# Altium footprint library Capacitors THD.PcbLib: 270 footprints (part 16 of 17)
Each footprint in its own frame and in the unit in brackets; x right, y up, seen from the top. Pads: shape width x height; smd on the part's side, far side on the other; paste and mask are expansions set on the pad; w line width, h text height; cw(c..) or ccw(c..) is an arc to the next point about the centre after c.
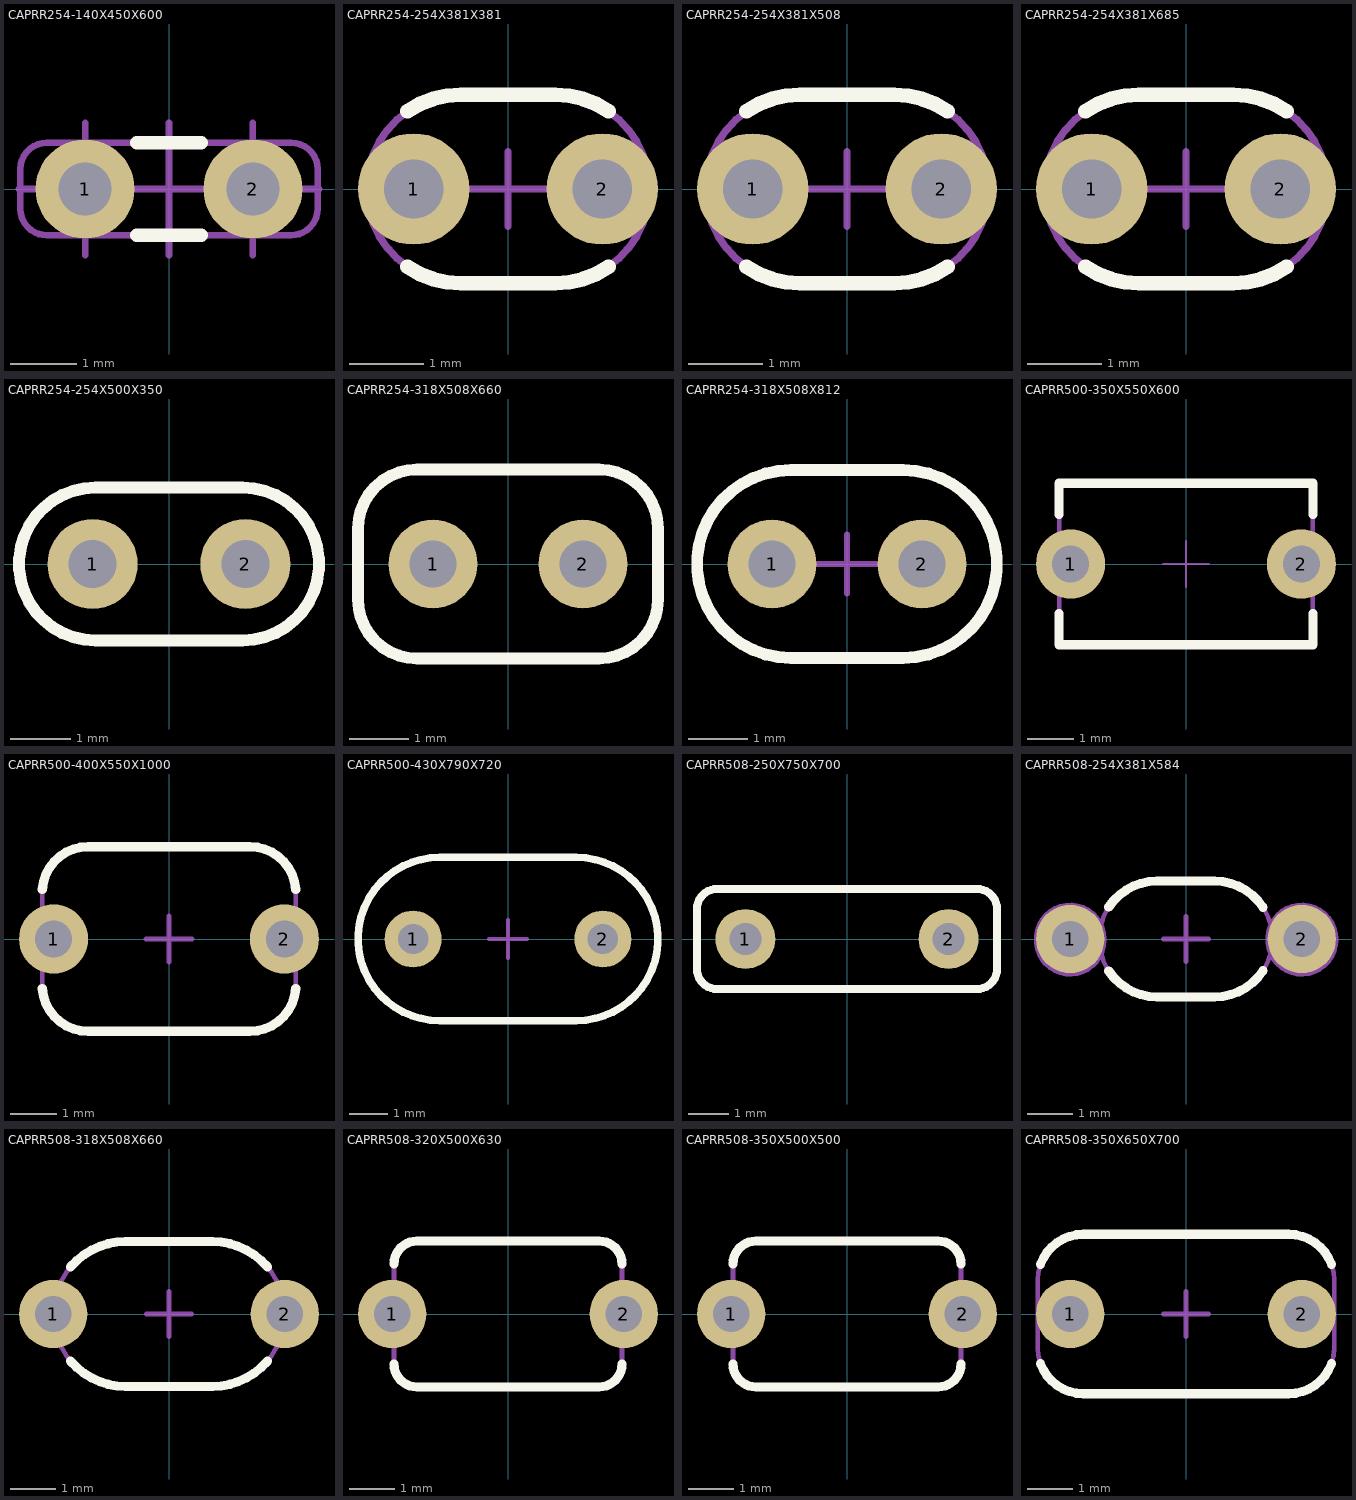
[diagram p15: the footprints below, top view; thin cyan lines are the x and y axes]

## CAPRR254-140X450X600 [mm] "Capacitor Radial, Pin spacing 2.54mm - Body With 1.4mm X Body Length 4.5mm X Body Height 6mm"
height 6
pads (2):
  round 1.5 hole 0.8: 1(-1.27,0) 2(1.27,0)
Top Overlay:
  lines w0.2: -0.487,-0.7 0.487,-0.7 ; -0.487,0.7 0.487,0.7
Mechanical 8:
  lines w0.1: -2.27,0 -1.27,0 ; -1.27,-1 -1.27,0 ; -1.27,1 -1.27,0 ; -1,0 0,0 ; 0,-1 0,0 ; 0,1 0,0 ; 1,0 0,0 ; 1.27,-1 1.27,0 ; 1.27,1 1.27,0 ; 2.27,0 1.27,0
Mechanical 14:
  lines w0.1: -2.25,-0.3 ccw(c-1.85,-0.3) -1.85,-0.7 1.85,-0.7 ccw(c1.85,-0.3) 2.25,-0.3 2.25,0.3 ccw(c1.85,0.3) 1.85,0.7 -1.85,0.7 ccw(c-1.85,0.3) -2.25,0.3 -2.25,-0.3
3D body "CAPRR254-140X450X600.stp": height 6, standoff -3.8, extent -2.25,-0.7 2.25,0.7

## CAPRR254-254X381X381 [mm] "Capacitor Radial Rounded, Pin spacing 2.54mm - Body With 2.54mm X Body Length 3.81mm X Body Height 3.81mm"
height 3.81
pads (2):
  round 1.5 hole 0.8: 1(-1.27,0) 2(1.27,0)
Top Overlay:
  lines w0.2: -1.354,-1.047 ccw(c-0.635,0) -0.635,-1.27 0.635,-1.27 ccw(c0.635,0) 1.354,-1.047 ; -1.354,1.047 cw(c-0.635,0) -0.635,1.27 0.635,1.27 cw(c0.635,0) 1.354,1.047
Mechanical 8:
  lines w0.1: -1.77,0 -1.27,0 ; -1.27,-0.5 -1.27,0 ; -1.27,0.5 -1.27,0 ; -0.77,0 -1.27,0 ; -0.5,0 0,0 ; 0,-0.5 0,0 ; 0,0.5 0,0 ; 0.5,0 0,0 ; 0.77,0 1.27,0 ; 1.27,-0.5 1.27,0 ; 1.27,0.5 1.27,0 ; 1.77,0 1.27,0
Mechanical 14:
  lines w0.1: -0.635,-1.27 cw(c-0.635,0) -0.635,1.27 0.635,1.27 cw(c0.635,0) 0.635,-1.27 -0.635,-1.27
3D body "CAPRR254-254X381X381.stp": height 3.81, standoff -5.27, extent -1.905,-1.27 1.905,1.27

## CAPRR254-254X381X508 [mm] "Capacitor Radial Rounded, Pin spacing 2.54mm - Body With 2.54mm X Body Length 3.81mm X Body Height 5.08mm"
height 5.08
pads (2):
  round 1.5 hole 0.8: 1(-1.27,0) 2(1.27,0)
Top Overlay:
  lines w0.2: -1.354,-1.047 ccw(c-0.635,0) -0.635,-1.27 0.635,-1.27 ccw(c0.635,0) 1.354,-1.047 ; -1.354,1.047 cw(c-0.635,0) -0.635,1.27 0.635,1.27 cw(c0.635,0) 1.354,1.047
Mechanical 8:
  lines w0.1: -1.77,0 -1.27,0 ; -1.27,-0.5 -1.27,0 ; -1.27,0.5 -1.27,0 ; -0.77,0 -1.27,0 ; -0.5,0 0,0 ; 0,-0.5 0,0 ; 0,0.5 0,0 ; 0.5,0 0,0 ; 0.77,0 1.27,0 ; 1.27,-0.5 1.27,0 ; 1.27,0.5 1.27,0 ; 1.77,0 1.27,0
Mechanical 14:
  lines w0.1: -0.635,-1.27 cw(c-0.635,0) -0.635,1.27 0.635,1.27 cw(c0.635,0) 0.635,-1.27 -0.635,-1.27
3D body "CAPRR254-254X381X508.stp": height 5.08, standoff -3.1, extent -1.905,-1.27 1.905,1.27

## CAPRR254-254X381X685 [mm] "Capacitor Radial Rounded (KEMET C315), Pin spacing 2.54mm - Body With 2.54mm X Body Length 3.81mm X Body Height 6.85mm"
height 6.85
pads (2):
  round 1.5 hole 0.8: 1(-1.27,0) 2(1.27,0)
Top Overlay:
  lines w0.2: -1.354,-1.047 ccw(c-0.635,0) -0.635,-1.27 0.635,-1.27 ccw(c0.635,0) 1.354,-1.047 ; -1.354,1.047 cw(c-0.635,0) -0.635,1.27 0.635,1.27 cw(c0.635,0) 1.354,1.047
Mechanical 8:
  lines w0.1: -1.77,0 -1.27,0 ; -1.27,-0.5 -1.27,0 ; -1.27,0.5 -1.27,0 ; -0.77,0 -1.27,0 ; -0.5,0 0,0 ; 0,-0.5 0,0 ; 0,0.5 0,0 ; 0.5,0 0,0 ; 0.77,0 1.27,0 ; 1.27,-0.5 1.27,0 ; 1.27,0.5 1.27,0 ; 1.77,0 1.27,0
Mechanical 14:
  lines w0.1: -0.635,-1.27 cw(c-0.635,0) -0.635,1.27 0.635,1.27 cw(c0.635,0) 0.635,-1.27 -0.635,-1.27
3D body "CAPRR254-254X381X685.stp": height 6.85, standoff -3.1, extent -1.905,-1.27 1.905,1.27

## CAPRR254-254X500X350 [mm] "Capacitor Radial, Pin spacing 2.54mm - Body With 2.54mm X Body Length 5.00mm X Body Height 3.5mm"
height 3.5
pads (2):
  round 1.5 hole 0.8: 1(-1.27,0) 2(1.27,0)
Top Overlay:
  lines w0.2: -1.225,-1.27 cw(c-1.225,0) -1.225,1.27 1.225,1.27 cw(c1.225,0) 1.225,-1.27 -1.225,-1.27
Mechanical 14:
  lines w0.1: -1.225,-1.27 cw(c-1.225,0) -1.225,1.27 1.225,1.27 cw(c1.225,0) 1.225,-1.27 -1.225,-1.27
3D body "CAPRR254-254X500X350.stp": height 5, standoff -3.6, extent -2.5,-1.27 2.5,1.27

## CAPRR254-318X508X660 [mm] "Capacitor Radial Rounded, Pin spacing 2.54mm - Body With 3.18mm X Body Length 5.08mm X Body Height 6.6mm"
height 6.6
pads (2):
  round 1.5 hole 0.8: 1(-1.27,0) 2(1.27,0)
Top Overlay:
  lines w0.2: -2.54,-0.6 ccw(c-1.54,-0.6) -1.54,-1.6 1.54,-1.6 ccw(c1.54,-0.6) 2.54,-0.6 2.54,0.6 ccw(c1.54,0.6) 1.54,1.6 -1.54,1.6 ccw(c-1.54,0.6) -2.54,0.6 -2.54,-0.6
Mechanical 13:
  lines w0.1: -2.54,-0.6 ccw(c-1.54,-0.6) -1.54,-1.6 1.54,-1.6 ccw(c1.54,-0.6) 2.54,-0.6 2.54,0.6 ccw(c1.54,0.6) 1.54,1.6 -1.54,1.6 ccw(c-1.54,0.6) -2.54,0.6 -2.54,-0.6
Mechanical 14:
  lines w0.1: -2.54,-0.6 ccw(c-1.54,-0.6) -1.54,-1.6 1.54,-1.6 ccw(c1.54,-0.6) 2.54,-0.6 2.54,0.6 ccw(c1.54,0.6) 1.54,1.6 -1.54,1.6 ccw(c-1.54,0.6) -2.54,0.6 -2.54,-0.6
3D body "CAPRR254-318X508X660.stp": height 6.6, standoff -3.6, extent -2.54,-1.59 2.54,1.594

## CAPRR254-318X508X812 [mm] "Capacitor Radial Rounded, (KEMET C320) Pin spacing 2.54mm - Body With 3.18mm X Body Length 5.08mm X Body Height 8.12mm (6.6+1.52)"
height 8.12
pads (2):
  round 1.5 hole 0.8: 1(-1.27,0) 2(1.27,0)
Top Overlay:
  lines w0.2: -0.95,-1.59 cw(c-0.95,0) -0.95,1.59 0.95,1.59 cw(c0.95,0) 0.95,-1.59 -0.95,-1.59
Mechanical 8:
  lines w0.1: -1.27,0 -1.77,0 -1.27,0 ; -1.27,0 -0.77,0 -1.27,0 ; -1.27,0 -1.27,-0.5 -1.27,0 ; -1.27,0 -1.27,0.5 -1.27,0 ; 0,0 0,0.5 0,0 ; 0,0 0,-0.5 0,0 ; 0,0 0.5,0 0,0 ; 0,0 -0.5,0 0,0 ; 1.27,0 0.77,0 1.27,0 ; 1.27,0 1.77,0 1.27,0 ; 1.27,0 1.27,-0.5 1.27,0 ; 1.27,0 1.27,0.5 1.27,0
Mechanical 14:
  lines w0.1: -0.95,-1.59 cw(c-0.95,0) -0.95,1.59 0.95,1.59 cw(c0.95,0) 0.95,-1.59 -0.95,-1.59
3D body "CAPRR254-318X508X812.stp": height 8.12, standoff -3.2, extent -2.54,-1.59 2.54,1.59

## CAPRR500-350X550X600 [mm] "Capacitor Radial, Pin spacing 2mm - Body With 3.5mm X Body Length 5.5mm X Body Height 6mm"
height 6
pads (2):
  round 1.5 hole 0.8: 1(-2.5,0) 2(2.5,0)
Top Overlay:
  lines w0.2: -2.75,-1.071 -2.75,-1.75 2.75,-1.75 2.75,-1.071 ; -2.75,1.071 -2.75,1.75 2.75,1.75 2.75,1.071
Mechanical 8:
  lines w0.05: -3,0 -2.5,0 ; -2.5,-0.5 -2.5,0 ; -2.5,0.5 -2.5,0 ; -2,0 -2.5,0 ; -0.5,0 0,0 ; 0,-0.5 0,0 ; 0,0.5 0,0 ; 0.5,0 0,0 ; 2,0 2.5,0 ; 2.5,-0.5 2.5,0 ; 2.5,0.5 2.5,0 ; 3,0 2.5,0
Mechanical 14:
  lines w0.1: -2.75,-1.75 -2.75,1.75 2.75,1.75 2.75,-1.75 -2.75,-1.75
3D body "CAPRR500-350X550X600.stp": height 6, standoff -3.92, extent -2.75,-1.75 2.75,1.75

## CAPRR500-400X550X1000 [mm] "Capacitor Radial Rounded, Pin spacing 5.00mm - Body With 4.00mm X Body Length 5.50mm X Body Height 10mm"
height 10
pads (2):
  round 1.5 hole 0.8: 1(-2.5,0) 2(2.5,0)
Top Overlay:
  lines w0.2: -2.747,-1.072 ccw(c-1.75,-1) -1.75,-2 1.75,-2 ccw(c1.75,-1) 2.747,-1.072 ; -2.747,1.072 cw(c-1.75,1) -1.75,2 1.75,2 cw(c1.75,1) 2.747,1.072
Mechanical 8:
  lines w0.1: -3,0 -2.5,0 ; -2.5,-0.5 -2.5,0 ; -2.5,0.5 -2.5,0 ; -2,0 -2.5,0 ; -0.5,0 0,0 ; 0,-0.5 0,0 ; 0,0.5 0,0 ; 0.5,0 0,0 ; 2,0 2.5,0 ; 2.5,-0.5 2.5,0 ; 2.5,0.5 2.5,0 ; 3,0 2.5,0
Mechanical 14:
  lines w0.1: -2.75,-1 ccw(c-1.75,-1) -1.75,-2 1.75,-2 ccw(c1.75,-1) 2.75,-1 2.75,1 ccw(c1.75,1) 1.75,2 -1.75,2 ccw(c-1.75,1) -2.75,1 -2.75,-1
3D body "CAPRR500-400X550X1000.stp": height 10, standoff -3.6, extent -2.75,-2 2.75,2

## CAPRR500-430X790X720 [mm] "Capacitor Radial Rounded, Pin spacing 5.00mm - Body With 4.30mm X Body Length 7.90mm X Body Height 7.2mm"
height 7.2
pads (2):
  round 1.5 hole 0.8: 1(-2.5,0) 2(2.5,0)
Top Overlay:
  lines w0.2: -1.8,-2.15 cw(c-1.8,0) -1.8,2.15 1.8,2.15 cw(c1.8,0) 1.8,-2.15 -1.8,-2.15
Mechanical 8:
  lines w0.1: -3,0 -2.5,0 ; -2.5,-0.5 -2.5,0 ; -2.5,0.5 -2.5,0 ; -2,0 -2.5,0 ; -0.5,0 0,0 ; 0,-0.5 0,0 ; 0,0.5 0,0 ; 0.5,0 0,0 ; 2,0 2.5,0 ; 2.5,-0.5 2.5,0 ; 2.5,0.5 2.5,0 ; 3,0 2.5,0
Mechanical 14:
  lines w0.1: -1.8,-2.15 cw(c-1.8,0) -1.8,2.15 1.8,2.15 cw(c1.8,0) 1.8,-2.15 -1.8,-2.15
3D body "CAPRR500-430X790X720.stp": height 8.2, standoff -3.1, extent -3.95,-2.15 3.95,2.15

## CAPRR508-250X750X700 [mm] "Capacitor Radial Rounded, Pin spacing 5.08mm - Body With 2.5mm X Body Length 7.5mm X Body Height 7.0mm"
height 7
pads (2):
  round 1.5 hole 0.8: 1(-2.54,0) 2(2.54,0)
Top Overlay:
  lines w0.2: -3.75,-0.75 ccw(c-3.25,-0.75) -3.25,-1.25 3.25,-1.25 ccw(c3.25,-0.75) 3.75,-0.75 3.75,0.75 ccw(c3.25,0.75) 3.25,1.25 -3.25,1.25 ccw(c-3.25,0.75) -3.75,0.75 -3.75,-0.75
Mechanical 13:
  lines w0.1: -3.75,-0.75 ccw(c-3.25,-0.75) -3.25,-1.25 3.25,-1.25 ccw(c3.25,-0.75) 3.75,-0.75 3.75,0.75 ccw(c3.25,0.75) 3.25,1.25 -3.25,1.25 ccw(c-3.25,0.75) -3.75,0.75 -3.75,-0.75
Mechanical 14:
  lines w0.1: -3.75,-0.75 ccw(c-3.25,-0.75) -3.25,-1.25 3.25,-1.25 ccw(c3.25,-0.75) 3.75,-0.75 3.75,0.75 ccw(c3.25,0.75) 3.25,1.25 -3.25,1.25 ccw(c-3.25,0.75) -3.75,0.75 -3.75,-0.75
3D body "CAPRR508-250X750X700.stp": height 7, standoff -1.94, extent -3.75,-1.25 3.75,1.25

## CAPRR508-254X381X584 [mm] "Capacitor Radial Rounded (KEMET C317), Pin spacing 5.08mm - Body With 2.54mm X Body Length 3.81mm X Body Height 5.84mm"
height 5.84
pads (2):
  round 1.5 hole 0.8: 1(-2.54,0) 2(2.54,0)
Top Overlay:
  lines w0.2: -1.693,-0.702 ccw(c-0.635,0) -0.635,-1.27 0.625,-1.27 ccw(c0.625,0) 1.688,-0.695 ; -1.693,0.702 cw(c-0.635,0) -0.635,1.27 0.625,1.27 cw(c0.625,0) 1.688,0.695
Mechanical 8:
  circle w0.1: c-2.54,0 r0.75
  circle w0.1: c2.54,0 r0.75
  circle w0.1: c2.54,-0.025 r0.75
  circle w0.1: c-2.54,-0.025 r0.75
  lines w0.1: -3.04,-0.025 -2.54,-0.025 ; -3.04,0 -2.54,0 ; -2.54,-0.5 -2.54,0 ; -2.54,0.5 -2.54,0 ; -2.04,0 -2.54,0 ; -0.5,0 0,0 ; 0,-0.5 0,0 ; 0,0.5 0,0 ; 0.5,0 0,0 ; 2.04,0 2.54,0 ; 2.54,-0.5 2.54,0 ; 2.54,0.5 2.54,0 ; 3.04,0 2.54,0
Mechanical 14:
  lines w0.1: -0.635,-1.27 cw(c-0.635,0) -0.635,1.27 0.625,1.27 cw(c0.625,0) 0.625,-1.27 -0.635,-1.27
3D body "CAPRR508-254X381X584.stp": height 5.84, standoff -1.94, extent -2.79,-1.27 2.79,1.27

## CAPRR508-318X508X660 [mm] "Capacitor Radial Rounded (KEMET C322), Pin spacing 5.08mm - Body With 3.18mm X Body Length 5.08mm X Body Height 6.6mm"
height 6.6
pads (2):
  round 1.5 hole 0.8: 1(-2.54,0) 2(2.54,0)
Top Overlay:
  lines w0.2: -2.159,-1.032 ccw(c-0.95,0) -0.95,-1.59 0.95,-1.59 ccw(c0.95,0) 2.159,-1.032 ; -2.159,1.032 cw(c-0.95,0) -0.95,1.59 0.95,1.59 cw(c0.95,0) 2.159,1.032
Mechanical 8:
  lines w0.1: -3.04,0 -2.54,0 ; -2.54,-0.5 -2.54,0 ; -2.54,0.5 -2.54,0 ; -2.04,0 -2.54,0 ; -0.5,0 0,0 ; 0,-0.5 0,0 ; 0,0.5 0,0 ; 0.5,0 0,0 ; 2.04,0 2.54,0 ; 2.54,-0.5 2.54,0 ; 2.54,0.5 2.54,0 ; 3.04,0 2.54,0
Mechanical 14:
  lines w0.1: -0.95,-1.59 cw(c-0.95,0) -0.95,1.59 0.95,1.59 cw(c0.95,0) 0.95,-1.59 -0.95,-1.59
3D body "CAPRR508-318X508X660.stp": height 6.6, standoff -1.94, extent -2.79,-1.59 2.79,1.59

## CAPRR508-320X500X630 [mm] "Capacitor Radial Rounded, Pin spacing 5.08mm - Body With 3.2mm X Body Length 5.0mm X Body Height 6.3mm"
height 6.3
pads (2):
  round 1.5 hole 0.8: 1(-2.54,0) 2(2.54,0)
Top Overlay:
  lines w0.2: -2.5,-1.1 ccw(c-2,-1.1) -2,-1.6 2,-1.6 ccw(c2,-1.1) 2.5,-1.1 ; -2.5,1.1 cw(c-2,1.1) -2,1.6 2,1.6 cw(c2,1.1) 2.5,1.1
Mechanical 13:
  lines w0.1: -2.5,-1.1 ccw(c-2,-1.1) -2,-1.6 2,-1.6 ccw(c2,-1.1) 2.5,-1.1 2.5,1.1 ccw(c2,1.1) 2,1.6 -2,1.6 ccw(c-2,1.1) -2.5,1.1 -2.5,-1.1
Mechanical 14:
  lines w0.1: -2.5,-1.1 ccw(c-2,-1.1) -2,-1.6 2,-1.6 ccw(c2,-1.1) 2.5,-1.1 2.5,1.1 ccw(c2,1.1) 2,1.6 -2,1.6 ccw(c-2,1.1) -2.5,1.1 -2.5,-1.1
3D body "CAPRR508-320X500X630.stp": height 6.3, standoff -1.94, extent -2.79,-1.6 2.79,1.6

## CAPRR508-350X500X500 [mm] "Capacitor Radial Rounded, Pin spacing 5.08mm - Body With 3.2mm X Body Length 5.0mm X Body Height 5.0mm"
height 5
pads (2):
  round 1.5 hole 0.8: 1(-2.54,0) 2(2.54,0)
Top Overlay:
  lines w0.2: -2.5,-1.1 ccw(c-2,-1.1) -2,-1.6 2,-1.6 ccw(c2,-1.1) 2.5,-1.1 ; -2.5,1.1 cw(c-2,1.1) -2,1.6 2,1.6 cw(c2,1.1) 2.5,1.1
Mechanical 14:
  lines w0.1: -2.5,-1.1 ccw(c-2,-1.1) -2,-1.6 2,-1.6 ccw(c2,-1.1) 2.5,-1.1 2.5,1.1 ccw(c2,1.1) 2,1.6 -2,1.6 ccw(c-2,1.1) -2.5,1.1 -2.5,-1.1
3D body "CAPRR508-350X500X500.stp": height 5, standoff -1.94, extent -2.79,-1.75 2.79,1.75

## CAPRR508-350X650X700 [mm] "Capacitor Radial Rounded, Pin spacing 5.08mm - Body With 3.5mm X Body Length 6.5mm X Body Height 7mm"
height 7
pads (2):
  round 1.5 hole 0.8: 1(-2.54,0) 2(2.54,0)
Top Overlay:
  lines w0.2: -3.19,-1.092 ccw(c-2.25,-0.75) -2.25,-1.75 2.25,-1.75 ccw(c2.25,-0.75) 3.19,-1.092 ; -3.19,1.092 cw(c-2.25,0.75) -2.25,1.75 2.25,1.75 cw(c2.25,0.75) 3.19,1.092
Mechanical 8:
  lines w0.1: -3.04,0 -2.54,0 ; -2.54,-0.5 -2.54,0 ; -2.54,0.5 -2.54,0 ; -2.04,0 -2.54,0 ; -0.5,0 0,0 ; 0,-0.5 0,0 ; 0,0.5 0,0 ; 0.5,0 0,0 ; 2.04,0 2.54,0 ; 2.54,-0.5 2.54,0 ; 2.54,0.5 2.54,0 ; 3.04,0 2.54,0
Mechanical 14:
  lines w0.1: -3.25,-0.75 ccw(c-2.25,-0.75) -2.25,-1.75 2.25,-1.75 ccw(c2.25,-0.75) 3.25,-0.75 3.25,0.75 ccw(c2.25,0.75) 2.25,1.75 -2.25,1.75 ccw(c-2.25,0.75) -3.25,0.75 -3.25,-0.75
3D body "CAPRR508-350X650X700.stp": height 7, standoff -3.6, extent -3.25,-1.75 3.25,1.75